# EAGLE library part BQ32000DR (library Common-Parts-Library-Eagle)
Serial RTC with Battery Backup and Trickle Charge 8-SOIC -40 to 85
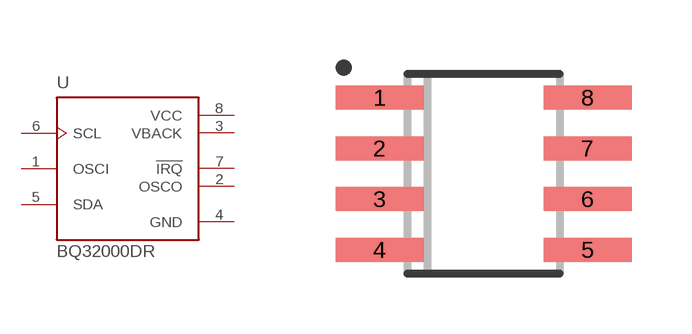
[diagram p72: symbol with the pads of BQ32000DR_SOIC127P600X175-8N; footprint BQ32000DR_SOIC127P600X175-8N]

Designator prefix U

## BQ32000DR (MANUFACTURER: Texas Instruments)  [BQ32000DR_SOIC127P600X175-8N]
1  OSCI  in
2  OSCO  out
3  VBACK  pwr
4  GND  pas
5  SDA
6  SCL  in
7  !IRQ  out
8  VCC  pwr

## Footprint BQ32000DR_SOIC127P600X175-8N (pad centres in mm)
smd 2.2 x 0.6: 1 -2.6,1.905; 2 -2.6,0.635; 3 -2.6,-0.635; 4 -2.6,-1.905; 5 2.6,-1.905; 6 2.6,-0.635; 7 2.6,0.635; 8 2.6,1.905